# EAGLE library part MCP73113 (library power)
Single cell 6.5 OVP battery Charger Source: Datasheet <http://ww1.microchip.com/downloads/en/DeviceDoc/20002183E.pdf>
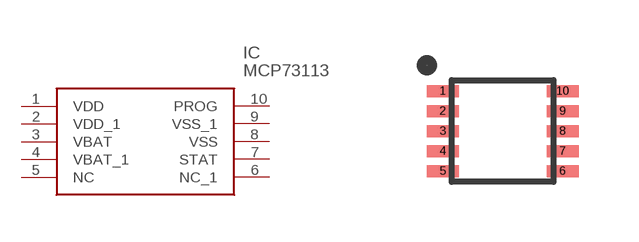
[diagram p3: symbol with the pads of SON50P300X300X100-11N; footprint SON50P300X300X100-11N]

Designator prefix IC

## MCP73113 (ALLIED_NUMBER: 70047216; ALLIED_PRICE-STOCK: http://www.alliedelec.com/microchip-technology-inc-mcp73113-06si-mf/70047216/; DESCRIPTION: Single cell 6.5 OVP battery Charger; HEIGHT: 1mm; MANUFACTURER_NAME: Microchip; MANUFACTURER_PART_NUMBER: MCP73113-06SI/MF; MOUSER_PART_NUMBER: 579-MCP73113-06SI/MF; MOUSER_PRICE-STOCK: https://www.mouser.com/Search/Refine.aspx?Keyword=579-MCP73113-06SI%2FMF; RS_PART_NUMBER: 1653561; RS_PRICE-STOCK: http://uk.rs-online.com/web/p/products/1653561)  [SON50P300X300X100-11N]
1  VDD  pwr
2  VDD_1  pwr
3  VBAT
4  VBAT_1
5  NC  nc
6  NC_1
7  STAT
8  VSS  pwr
9  VSS_1  pwr
10  PROG

## Footprint SON50P300X300X100-11N (pad centres in mm)
(MF)10-Lead(DFN)_1
smd 0.8 x 0.3: 1 -1.5,1; 2 -1.5,0.5; 3 -1.5,0; 4 -1.5,-0.5; 5 -1.5,-1; 6 1.5,-1; 7 1.5,-0.5; 8 1.5,0; 9 1.5,0.5; 10 1.5,1